# Altium footprint library PC817.PcbLib: 1 footprints
Each footprint in its own frame and in the unit in brackets; x right, y up, seen from the top. Pads: shape width x height; smd on the part's side, far side on the other; paste and mask are expansions set on the pad; w line width, h text height; cw(c..) or ccw(c..) is an arc to the next point about the centre after c.
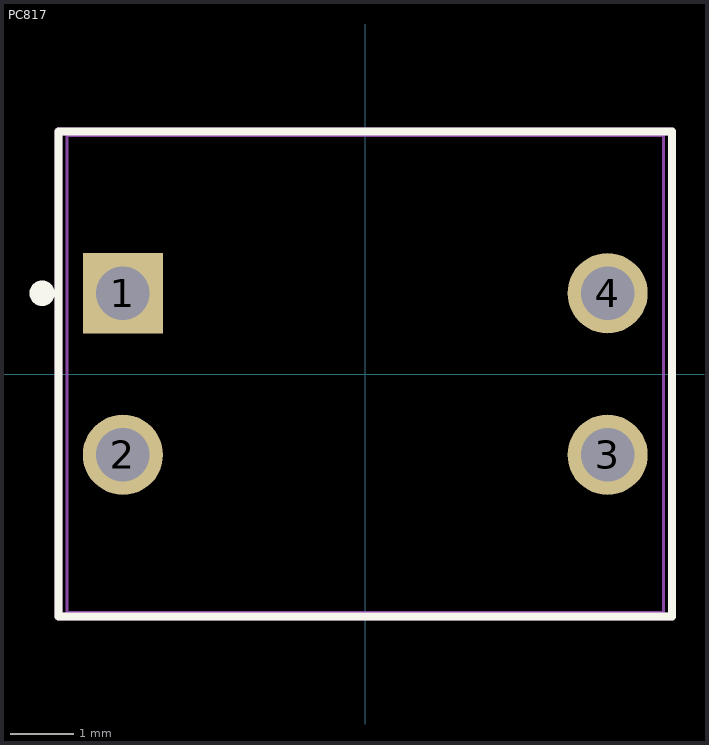
[diagram p0: the footprint, top view; thin cyan lines are the x and y axes]

## PC817 [mm]
pads (4):
  rect 1.26x1.26 / inner round 1.26 / far side rect 1.26x1.26 hole 0.84: 1(-3.81,1.27)
  round 1.26 hole 0.84: 2(-3.81,-1.27) 3(3.81,-1.27) 4(3.81,1.27)
Top Overlay:
  circle w0.2: c-5.08,1.27 r0.1
  lines w0.127: -4.826,-3.81 4.826,-3.81 4.826,3.81 -4.826,3.81 -4.826,-3.81
Assembly Top:
  lines w0.127: -4.826,-3.81 4.826,-3.81 4.826,3.81 -4.826,3.81 -4.826,-3.81
Courtyard Top:
  lines w0.05: -4.69,-3.75 4.69,-3.75 4.69,3.75 -4.69,3.75 -4.69,-3.75
3D body "step_temp.STEP": height 4.8, standoff -3.2, extent -3.96,-2.29 3.96,2.29